# EAGLE library part NCP59302 (library myLib)
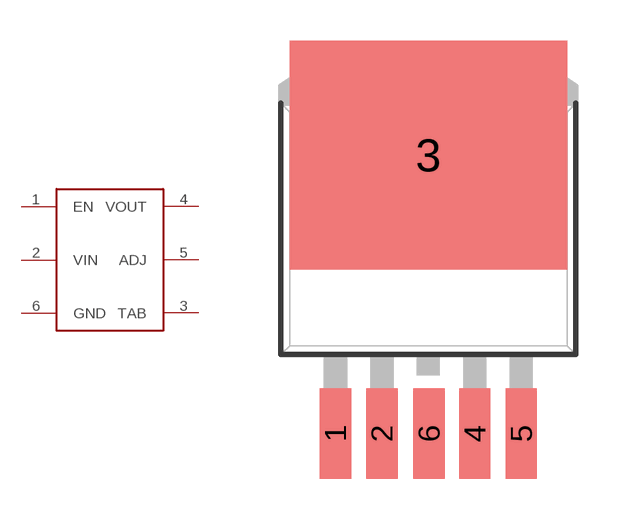
[diagram p1: symbol with the pads of D2PAK-5; footprint D2PAK-5]

Designator prefix -

## NCP59302  [D2PAK-5]
1  EN
2  VIN
3  TAB
4  VOUT
5  ADJ
6  GND

## Footprint D2PAK-5 (pad centres in mm)
smd 1.143 x 3.302: 1 -3.404,-7.658; 2 -1.702,-7.658; 4 1.702,-7.658; 5 3.404,-7.658; 6 0.025,-7.658
smd 10.16 x 8.382: 3 0,2.54